# EAGLE library part 691413720012 (library Wuerth_Elektronik_eiCan_Terminal_Blocks_v2.0)
WR-TBL Serie 413 - 5.0mm Screwless 45° Entry - 3 mm2 Wires, 12 Pins
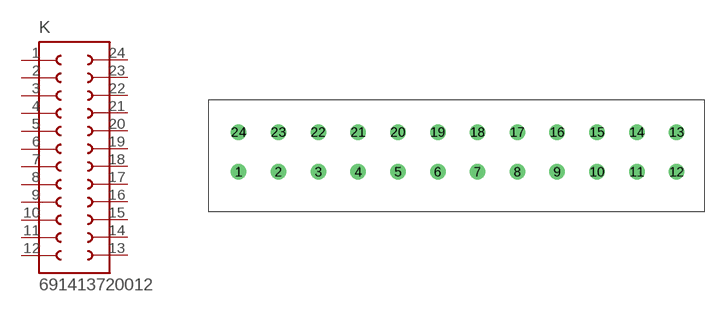
[diagram p289: symbol with the pads of 691413720012; footprint 691413720012]

Designator prefix K

## 691413720012  [691413720012]
1  1  pas
2  2  pas
3  3  pas
4  4  pas
5  5  pas
6  6  pas
7  7  pas
8  8  pas
9  9  pas
10  10  pas
11  11  pas
12  12  pas
13  13  pas
14  14  pas
15  15  pas
16  16  pas
17  17  pas
18  18  pas
19  19  pas
20  20  pas
21  21  pas
22  22  pas
23  23  pas
24  24  pas

## Footprint 691413720012 (pad centres in mm)
WR-TBL Serie 413 - 5.0mm Screwless 45° Entry - 3 mm2 Wires, 12 Pins
drill 1.3 round: 1 -5,-2.5; 2 0,-2.5; 3 5,-2.5; 4 10,-2.5; 5 15,-2.5; 6 20,-2.5; 7 25,-2.5; 8 30,-2.5; 9 35,-2.5; 10 40,-2.5; 11 45,-2.5; 12 50,-2.5; 13 50,2.5; 14 45,2.5; 15 40,2.5; 16 35,2.5; 17 30,2.5; 18 25,2.5; 19 20,2.5; 20 15,2.5; 21 10,2.5; 22 5,2.5; 23 0,2.5; 24 -5,2.5